# Altium integrated library Relay.IntLib: 1 symbol
Pins are listed as number, name and electrical type; pins without a type are passive.

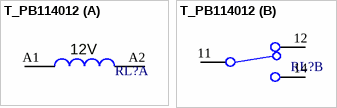
[diagram p0: symbol T_PB114012]

## T_PB114012
designator RL?, comment 70632-130  (value not drawn)
Relay Miniature Power PCB Relay PB; ECAD_Revision: 2; Librarian: UK; Nom. Coil Voltage: 12V; Tolerance: *; PartNumber: 70632-130; Power Rating: *; Item: *; HelpURL: *; Value: *
footprint T_PB (Tyco PB Type Relay Rev. 2)
part A pins: A1, A2
part B pins: 11 "COM", 12 "N/C", 14 "N/O"